# Altium footprint library ESP32_TypeC_30P.PcbLib: 1 footprints
Each footprint in its own frame and in the unit in brackets; x right, y up, seen from the top. Pads: shape width x height; smd on the part's side, far side on the other; paste and mask are expansions set on the pad; w line width, h text height; cw(c..) or ccw(c..) is an arc to the next point about the centre after c.
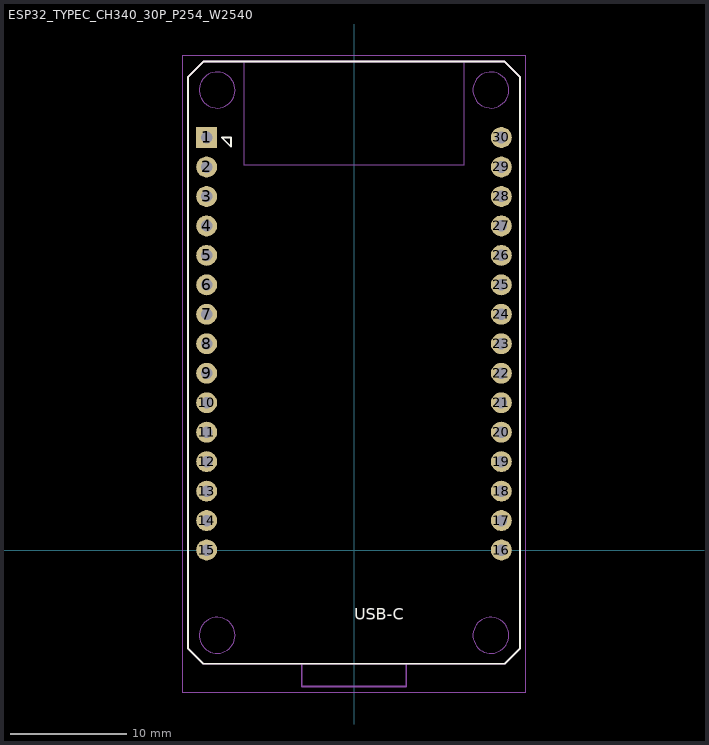
[diagram p0: the footprint, top view; thin cyan lines are the x and y axes]

## ESP32_TYPEC_CH340_30P_P254_W2540 [mm] "30-pin ESP32 Type-C CH340 development board; 2x15, pitch 2.54 mm, row spacing 25.40 mm; model-derived geometry."
height 7.69
pads (30):
  rect 1.8x1.8 hole 1: 1(-12.7,35.56)
  round 1.8 hole 1: 2(-12.7,33.02) 3(-12.7,30.48) 4(-12.7,27.94) 5(-12.7,25.4) 6(-12.7,22.86) 7(-12.7,20.32) 8(-12.7,17.78) 9(-12.7,15.24) 10(-12.7,12.7) 11(-12.7,10.16) 12(-12.7,7.62) 13(-12.7,5.08) 14(-12.7,2.54) 15(-12.7,0) 16(12.7,0) 17(12.7,2.54) 18(12.7,5.08) 19(12.7,7.62) 20(12.7,10.16) 21(12.7,12.7) 22(12.7,15.24) 23(12.7,17.78) 24(12.7,20.32) 25(12.7,22.86) 26(12.7,25.4) 27(12.7,27.94) 28(12.7,30.48) 29(12.7,33.02) 30(12.7,35.56)
Top Overlay:
  lines w0.15: -14.3,-8.5 -14.3,40.8 -13,42.1 13,42.1 14.3,40.8 14.3,-8.5 13,-9.8 -13,-9.8 -14.3,-8.5 ; -11.4,35.56 -10.6,35.56 -10.6,34.76 -11.4,35.56
  text ".Designator" at 0,43.4 h1.2
  text "USB-C" at 0,-6 h1
Mechanical 1:
  circle w0.1: c-11.8,-7.35 r1.55
  circle w0.1: c-11.8,39.65 r1.55
  circle w0.1: c11.8,-7.35 r1.55
  circle w0.1: c11.8,39.65 r1.55
  lines w0.15: -4.5,-9.8 -4.5,-11.75 4.5,-11.75 4.5,-9.8 ; -14.3,-8.5 -14.3,40.8 -13,42.1 13,42.1 14.3,40.8 14.3,-8.5 13,-9.8 -13,-9.8 -14.3,-8.5
Mechanical 13:
  lines w0.1: -9.5,33.2 9.5,33.2 9.5,42.1 -9.5,42.1 -9.5,33.2
  text "ANTENNA" at 0,37 h1
Mechanical 15:
  lines w0.05: -14.8,-12.25 14.8,-12.25 14.8,42.6 -14.8,42.6 -14.8,-12.25
3D body "ESP32_TypeC_30P_with_headers.step": height 0, standoff 0, extent -14.3,-11.225 14.3,42.1